# EAGLE library part UA9638 (library ua9638)
DUAL HIGH-SPEED DIFFERENTIAL LINE DRIVER
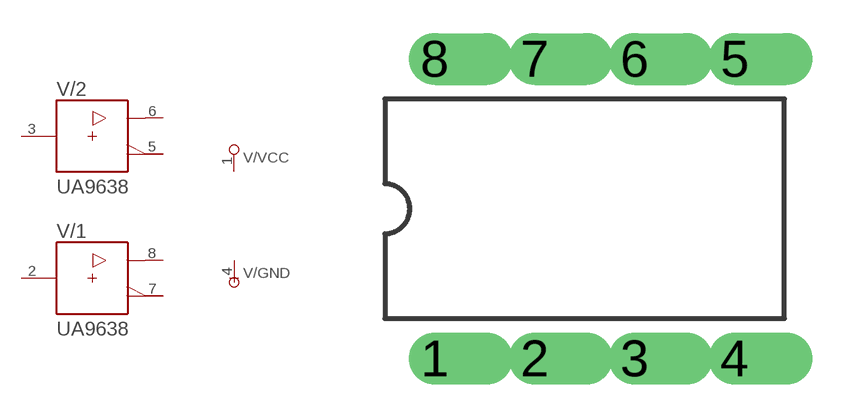
[diagram p0: symbol with the pads of DIL8; footprint DIL8]

Designator prefix V; gates /1=UA9638 /2=UA9638 /GND=GND /VCC=VCC

## UA9638N  [DIL8]
1  /VCC:+UB  pwr
2  /1:A  in
3  /2:A  in
4  /GND:-UB  pwr
5  /2:Z  out
6  /2:Y  out
7  /1:Z  out
8  /1:Y  out

## Footprint DIL8 (pad centres in mm)
drill 0.813 offset: 1 -3.81,-3.81; 2 -1.27,-3.81; 3 1.27,-3.81; 4 3.81,-3.81; 5 3.81,3.81; 6 1.27,3.81; 7 -1.27,3.81; 8 -3.81,3.81